# Altium footprint library CONN_14x2_0.5IN.PcbLib: 4 footprints
Each footprint in its own frame and in the unit in brackets; x right, y up, seen from the top. Pads: shape width x height; smd on the part's side, far side on the other; paste and mask are expansions set on the pad; w line width, h text height; cw(c..) or ccw(c..) is an arc to the next point about the centre after c.
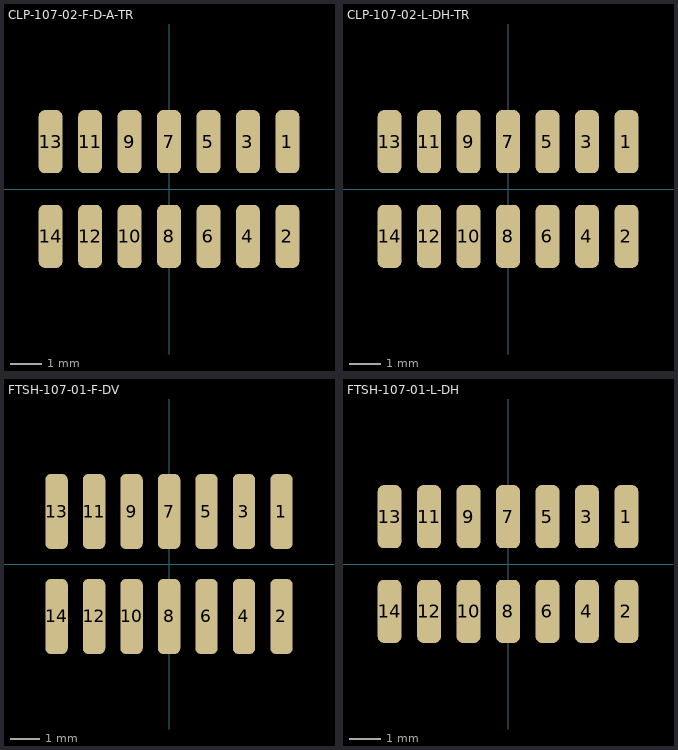
[diagram p0: the footprints below, top view; thin cyan lines are the x and y axes]

## CLP-107-02-F-D-A-TR [mil]
pads (14):
  rrect50% 30x80 smd: 1(150,60) 2(150,-60) 3(100,60) 4(100,-60) 5(50,60) 6(50,-60) 7(0,60) 8(0,-60) 9(-50,60) 10(-50,-60) 11(-100,60) 12(-100,-60) 13(-150,60) 14(-150,-60)
3D body "CLP-107-02-F-D-A-TR.stp": height 90, standoff -19, extent -183.49,-84.99 183.51,85

## CLP-107-02-L-DH-TR [mil]
pads (14):
  rrect50% 30x80 smd: 1(150,60) 2(150,-60) 3(100,60) 4(100,-60) 5(50,60) 6(50,-60) 7(0,60) 8(0,-60) 9(-50,60) 10(-50,-60) 11(-100,60) 12(-100,-60) 13(-150,60) 14(-150,-60)
3D body "CLP-107-02-L-DH-TR.stp": height 135.5, standoff 0.5, extent -183.5,-90 183.5,90

## FTSH-107-01-F-DV [mil]
pads (14):
  rrect50% 30x100 smd: 1(150,70) 2(150,-70) 3(100,70) 4(100,-70) 5(50,70) 6(50,-70) 7(0,70) 8(0,-70) 9(-50,70) 10(-50,-70) 11(-100,70) 12(-100,-70) 13(-150,70) 14(-150,-70)
3D body "FTSH-107-01-F-DV-P.stp": height 274, standoff -1, extent -174.99,-114.99 175,115

## FTSH-107-01-L-DH [mil]
pads (14):
  rrect50% 30x80 smd: 1(150,60) 2(150,-60) 3(100,60) 4(100,-60) 5(50,60) 6(50,-60) 7(0,60) 8(0,-60) 9(-50,60) 10(-50,-60) 11(-100,60) 12(-100,-60) 13(-150,60) 14(-150,-60)
3D body "FTSH-107-01-L-DH.stp": height 132.5, standoff -2.5, extent -174.99,-343.99 175,85.01